# Altium schematic symbol library BUTTON_SWITCHES.SchLib: 3 symbols
Pins are listed as number, name and electrical type; pins without a type are passive.

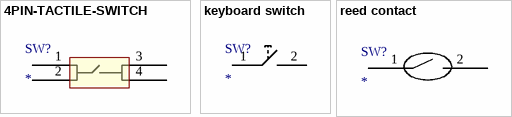
[diagram p0: symbols 4PIN-TACTILE-SWITCH to reed contact]

## 4PIN-TACTILE-SWITCH
designator SW?
footprint 4pin-tactile-switch
pins: 1, 2, 3, 4

## keyboard switch
designator SW?
footprint keyboard switch
footprint KEYBOARD_SWITCH_STAB (keyboard switch met 2U stabilizer)
pins: 1, 2

## reed contact
designator SW?
footprint reed contact
pins: 1, 2